# Altium schematic symbol library FT232RL-REEL.Schlib: 1 symbol
Pins are listed as number, name and electrical type; pins without a type are passive.

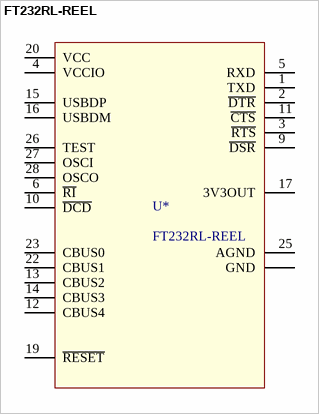
[diagram p0: symbol FT232RL-REEL]

## FT232RL-REEL
designator U*
USB Bridge, USB to UART USB 2.0 UART Interface 28-SSOP; MF: FTDI,; Digi-Key_Purchase_URL: https://www.digikey.com/product-detail/en/ftdi-future-technology-devices-international-ltd/FT232RL-REEL/768-1007-1-ND/1836402?utm_source=snapeda&utm_medium=aggregator&utm_campaign=symbol; Digi-Key_Part_Number: 768-1007-1-ND; Package: SSOP-28 FTDI; MP: FT232RL-REEL; Value: *; SnapEDA_Link: https://www.snapeda.com/parts/FT232RL-REEL/FTDI%2C%20Future%20Technology%20Devices%20International%20Ltd/view-part/45427/?ref=snap; ComponentLink1Description: LCSC - FTDI FT232RL; ComponentLink1URL: https://lcsc.com/product-detail/USB-ICs_FTDI-Future-Designs_FT232RL-REEL_FTDI-Future-Designs-FT232RL-REEL_C8690.html; LCSC Part #: C8690; JLCPCB Part Type: Basic
footprint SSOP28
pins: 1 TXD, 2 ~{DTR}, 3 ~{RTS}, 4 VCCIO, 5 RXD, 6 ~{RI}, 7 GND, 9 ~{DSR}, 10 ~{DCD}, 11 ~{CTS}, 12 CBUS4, 13 CBUS2, 14 CBUS3, 15 USBDP, 16 USBDM, 17 3V3OUT, 18 GND, 19 ~{RESET}, 20 VCC, 21 GND, 22 CBUS1, 23 CBUS0, 25 AGND, 26 TEST, 27 OSCI, 28 OSCO